# Altium footprint library 电源.PcbLib: 2 footprints
Each footprint in its own frame and in the unit in brackets; x right, y up, seen from the top. Pads: shape width x height; smd on the part's side, far side on the other; paste and mask are expansions set on the pad; w line width, h text height; cw(c..) or ccw(c..) is an arc to the next point about the centre after c.
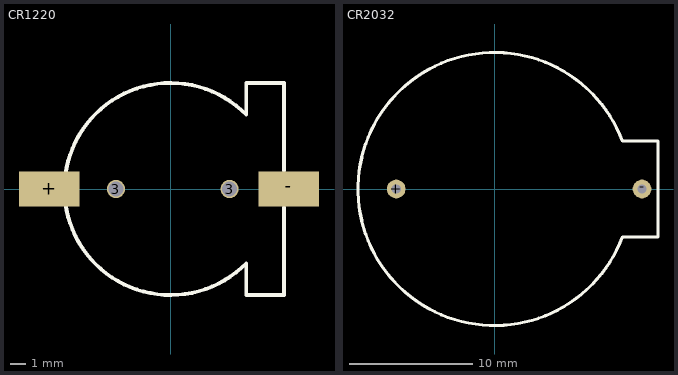
[diagram p0: the footprints below, top view; thin cyan lines are the x and y axes]

## CR1220 [mm]
pads (4):
  round 1.2 hole 1: 3(-3.6,0) 3(3.9,0)
  rect 4x2.3 smd: +(-8,0) -(7.8,0)
Top Overlay:
  lines w0.254: 7.5,-1.2 7.5,-7 5.5,-7 5,-7 5,-4.9 cw(c0,0) 5,4.9 5,7 7.5,7 7.5,1.2

## CR2032 [mil]
pads (2):
  round 60 hole 30: +(-314.96,0) -(472.44,0)
Top Overlay:
  lines w10: 409.45,-153.54 cw(c0,0) 409.45,153.54 523.62,153.54 523.62,0 523.62,-153.54 409.45,-153.54